# EAGLE library part MINI_DIN_3 (library mini_din)
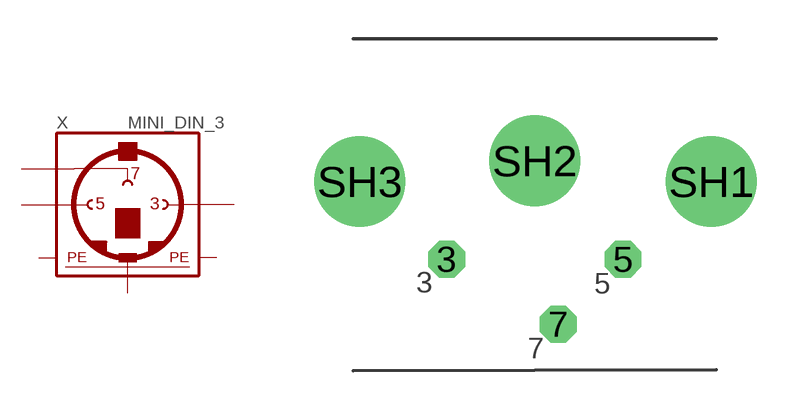
[diagram p0: symbol with the pads of M_DIN3; footprint M_DIN3]

Designator prefix X

## MINI_DIN_3  [M_DIN3]
3  3  pas
5  5  pas
7  7  pas
SH1  PE1  pwr
SH2  PE2  pwr
SH3  PE3  pwr

## Footprint M_DIN3 (pad centres in mm)
drill 0.9 pad 1.422 octagon: 3 -3.4,-3.75; 5 3.4,-3.75; 7 0.9,-6.25
drill 2.3 pad 3.5: SH1 6.8,-0.75; SH2 0,0.05; SH3 -6.75,-0.75